# EAGLE library part BLE113-A (library BLE113-A)
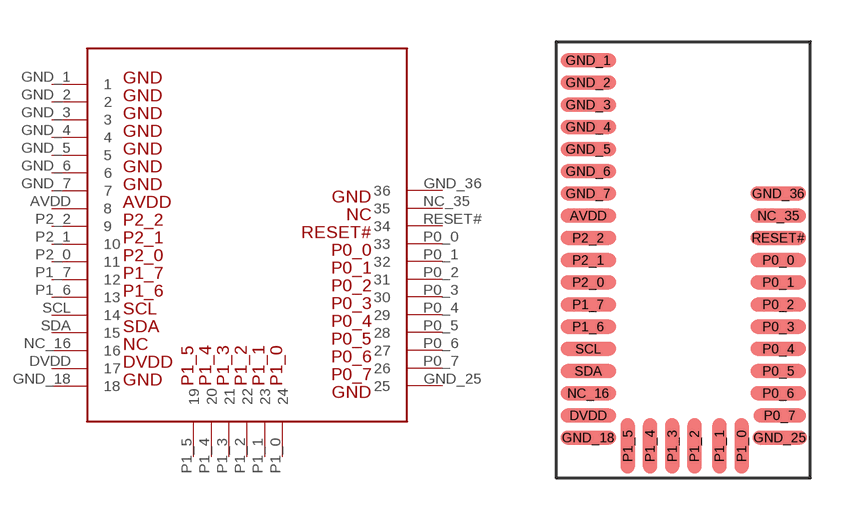
[diagram p0: symbol with the pads of BLE113-A; footprint BLE113-A]

Designator prefix -

## BLE113-A  [BLE113-A]
AVDD  8
DVDD  17
GND_1  1
GND_2  2
GND_3  3
GND_4  4
GND_5  5
GND_6  6
GND_7  7
GND_18  18
GND_25  25
GND_36  36
NC_16  16
NC_35  35
P0_0  33
P0_1  32
P0_2  31
P0_3  30
P0_4  29
P0_5  28
P0_6  27
P0_7  26
P1_0  24
P1_1  23
P1_2  22
P1_3  21
P1_4  20
P1_5  19
P1_6  13
P1_7  12
P2_0  11
P2_1  10
P2_2  9
RESET#  34
SCL  14
SDA  15

## Footprint BLE113-A (pad centres in mm)
smd 2 x 0.5: AVDD 1.15,9.45; DVDD 1.15,2.25; GND_1 1.15,15.05; GND_2 1.15,14.25; GND_3 1.15,13.45; GND_4 1.15,12.65; GND_5 1.15,11.85; GND_6 1.15,11.05; GND_7 1.15,10.25; GND_18 1.15,1.45; GND_36 8,10.25; NC_16 1.15,3.05; NC_35 8,9.45; P0_0 8,7.85; P0_1 8,7.05; P0_2 8,6.25; P0_3 8,5.45; P0_4 8,4.65; P0_5 8,3.85; P0_6 8,3.05; P1_6 1.15,5.45; P1_7 1.15,6.25; P2_0 1.15,7.05; P2_1 1.15,7.85; P2_2 1.15,8.65; RESET# 8,8.65; SCL 1.15,4.65; SDA 1.15,3.85
smd 1.95 x 0.5: GND_25 8.05,1.45
smd 1.9 x 0.5: P0_7 8.05,2.25
smd 0.5 x 2: P1_0 6.675,1.15; P1_1 5.875,1.15; P1_2 4.975,1.15; P1_3 4.175,1.15; P1_4 3.375,1.15; P1_5 2.575,1.15